# EAGLE library part OPA890 (library Mine)
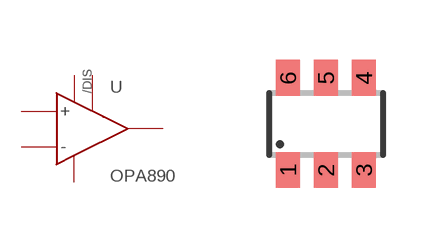
[diagram p51: symbol with the pads of SOT23-6; footprint SOT23-6]

Designator prefix -

## OPA890  [SOT23-6]
1  OUT+  out
2  V-  pwr
3  IN+  in
4  IN-  in
5  /DIS  in
6  V+  pwr

## Footprint SOT23-6 (pad centres in mm)
Small Outline Transistor 6 lead
smd 0.6 x 0.9: 1 -0.95,-1.15; 2 0,-1.15; 3 0.95,-1.15; 4 0.95,1.15; 5 0,1.15; 6 -0.95,1.15